# Altium footprint library Stock_Capacitors.PcbLib: 3 footprints
Each footprint in its own frame and in the unit in brackets; x right, y up, seen from the top. Pads: shape width x height; smd on the part's side, far side on the other; paste and mask are expansions set on the pad; w line width, h text height; cw(c..) or ccw(c..) is an arc to the next point about the centre after c.
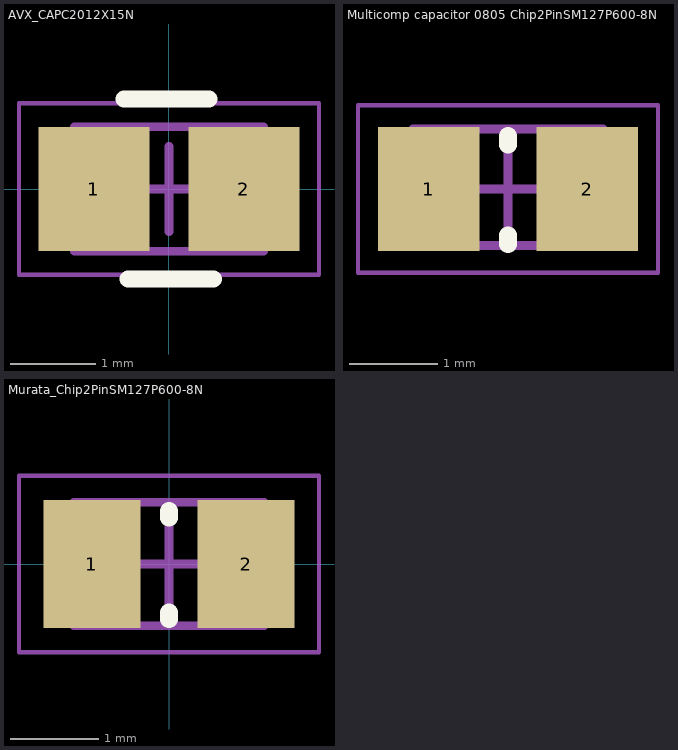
[diagram p0: the footprints below, top view; thin cyan lines are the x and y axes]

## AVX_CAPC2012X15N [mm] "Chip Capacitor, 2-Leads, Body 2.01x1.25mm, IPC Medium Density"
height 1.52
pads (2):
  rect 1.3x1.45 smd: 1(-0.875,0) 2(0.875,0)
Top Overlay:
  lines w0.2: -0.525,1.05 0.466,1.05 ; -0.475,-1.05 0.516,-1.05
Mechanical 13:
  lines w0.1: -1.105,-0.725 1.105,-0.725 1.105,0.725 -1.105,0.725 -1.105,-0.725
Mechanical 15:
  lines w0.05: -1.75,-1 1.75,-1 1.75,1 -1.75,1 -1.75,-1
  lines w0.1: -0.5,0 0.5,0 ; 0,-0.5 0,0.5
3D body "AVX_CAPC2012X15N.step": height 1.52, standoff 0, extent -1.105,-0.725 1.105,0.725

## Multicomp capacitor 0805 Chip2PinSM127P600-8N [mm] "0805 capacitor"
height 1.35
pads (2):
  rect 1.15x1.4 smd: 1(-4.5,2.8) 2(-2.7,2.8)
Top Overlay:
  lines w0.2: -3.6,2.175 -3.6,2.275 ; -3.6,3.3 -3.6,3.4
Mechanical 13:
  lines w0.1: -4.675,2.159 -4.675,3.48 -2.525,3.48 -2.525,2.159 -4.675,2.159
Mechanical 15:
  lines w0.05: -5.3,1.85 -5.3,3.75 -1.9,3.75 -1.9,1.85 -5.3,1.85
  lines w0.1: -4.1,2.8 -3.1,2.8 ; -3.6,2.3 -3.6,3.3
3D body "Multicomp capacitor 0805 Chip2PinSM127P600-8N.step": height 1.35, standoff 0, extent -4.675,2.125 -2.525,3.475

## Murata_Chip2PinSM127P600-8N [mm] "Murata 0805 capacitor"
height 1.4
pads (2):
  rect 1.1x1.45 smd: 1(-0.875,0) 2(0.875,0)
Top Overlay:
  lines w0.2: 0,-0.625 0,-0.55 ; 0,0.525 0,0.6
Mechanical 13:
  lines w0.1: -1.075,-0.7 -1.075,0.7 1.075,0.7 1.075,-0.7 -1.075,-0.7
Mechanical 15:
  lines w0.05: -1.7,-1 -1.7,1 1.7,1 1.7,-1 -1.7,-1
  lines w0.1: -0.5,0 0.5,0 ; 0,-0.5 0,0.5
3D body "Chip2PinSM127P600-8N.step": height 1.4, standoff 0, extent -1.075,-0.7 1.075,0.7